# Altium schematic symbol library Current_Meter.Schlib: 3 symbols
Pins are listed as number, name and electrical type; pins without a type are passive.

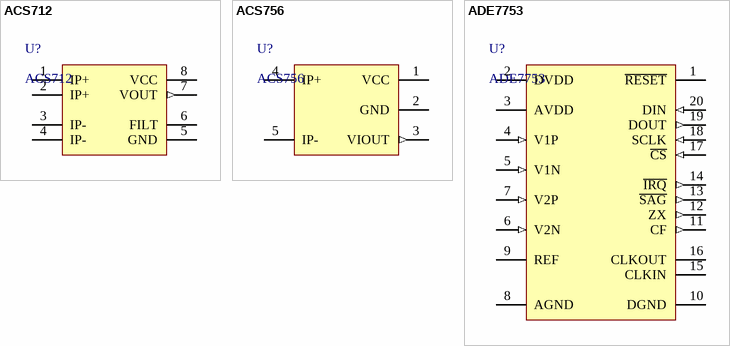
[diagram p0: symbols ACS712 to ADE7753]

## ACS712
designator U?
Hall Effect-Based Linear Current Sensor IC
footprint SO8L (8-Pin Plastic Small Outline Integrated Circuit 1.27 mm Pitch, IPC High Density)
pins: 1 IP+, 2 IP+, 3 IP-, 4 IP-, 5 GND (power), 6 FILT, 7 VOUT (out), 8 VCC (power)

## ACS756
designator U?
Hall Effect-Based Linear Current Sensor IC
footprint CA-5 (Package CA, 5-pin module, leadform PFF)
pins: 1 VCC (power), 2 GND (power), 3 VIOUT (out), 4 IP+, 5 IP-

## ADE7753
designator U?
Single-Phase Multifunction Metering IC
pins: 1 ~{RESET}, 2 DVDD, 3 AVDD, 4 V1P (in), 5 V1N (in), 6 V2N (in), 7 V2P (in), 8 AGND (power), 9 REF (power), 10 DGND (power), 11 CF (out), 12 ZX (out), 13 ~{SAG} (out), 14 ~{IRQ} (out), 15 CLKIN (power), 16 CLKOUT (power), 17 ~{CS} (in), 18 SCLK (in), 19 DOUT (out), 20 DIN (in)